# Altium schematic symbol library CRCW020149K9FNED.SchLib: 1 symbol
Pins are listed as number, name and electrical type; pins without a type are passive.

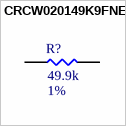
[diagram p0: symbol CRCW020149K9FNED]

## CRCW020149K9FNED
designator R?  Resistance: 49.9k  Tolerance: 1%  (hidden comment: CRCW020149K9FNED)
RES SMD 49.9K OHM 1% 1/20W 0201; MFR: Vishay Dale; PN: CRCW020149K9FNED; Footprint: RES0201; Package: 0201; ComponentLink1Description: Datasheet; Power Rating: 1/20W; Supplier 1: Mouser; Supplier Part Number 1: 71-CRCW020149K9FNED
footprint RES0201 (A generic 0201 footprint)
pins: 1, 2